# Altium footprint library Footprints.PcbLib: 3 footprints
Each footprint in its own frame and in the unit in brackets; x right, y up, seen from the top. Pads: shape width x height; smd on the part's side, far side on the other; paste and mask are expansions set on the pad; w line width, h text height; cw(c..) or ccw(c..) is an arc to the next point about the centre after c.
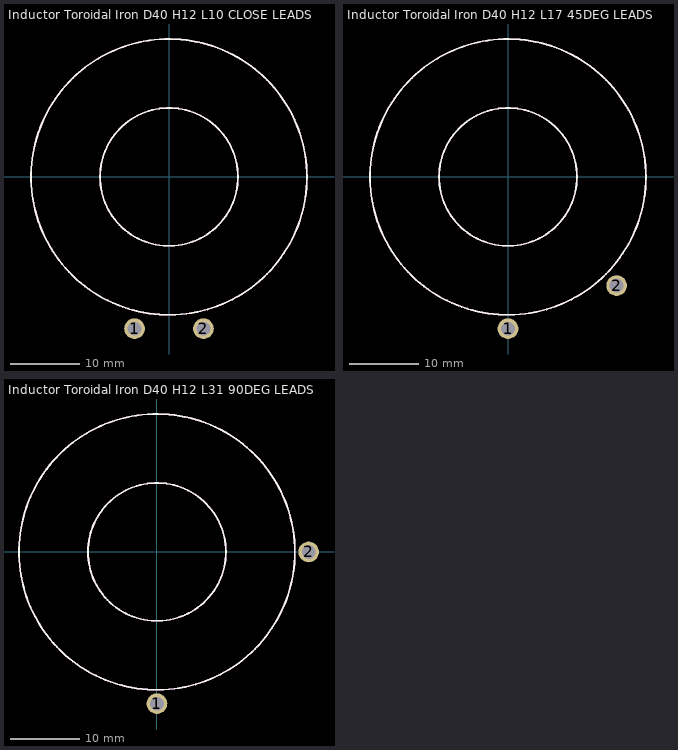
[diagram p0: the footprints below, top view; thin cyan lines are the x and y axes]

## Inductor Toroidal Iron D40 H12 L10 CLOSE LEADS [mm] "Inductor Toroidal Iron 40MM diameter 12MM height 10MM lead spacing ( close )"
height 12
pads (2):
  round 3 hole 2: 1(-5,-22) 2(5,-22)
Top Overlay:
  circle w0.254: c0,0 r20
  circle w0.254: c0,0 r10
Mechanical 13:
  circle w0.254: c0,0 r10
  circle w0.254: c0,0 r20
3D body: height 12, standoff 0, extent -20,-19.994 20,19.995

## Inductor Toroidal Iron D40 H12 L17 45DEG LEADS [mm] "Inductor Toroidal Iron 40MM diameter 12MM height 17MM lead spacing ( 45 deg )"
height 12
pads (2):
  round 3 hole 2: 1(0,-22) 2(15.75,-15.75)
Top Overlay:
  circle w0.254: c0,0 r10
  circle w0.254: c0,0 r20
Mechanical 13:
  circle w0.254: c0,0 r20
  circle w0.254: c0,0 r10
3D body: height 12, standoff 0, extent -20,-19.994 20,19.995

## Inductor Toroidal Iron D40 H12 L31 90DEG LEADS [mm] "Inductor Toroidal Iron 40MM diameter 12MM height 31MM lead spacing ( 90 deg )"
height 12
pads (2):
  round 3 hole 2: 1(0,-22) 2(22,0)
Top Overlay:
  circle w0.254: c0,0 r10
  circle w0.254: c0,0 r20
Mechanical 13:
  circle w0.254: c0,0 r20
  circle w0.254: c0,0 r10
3D body: height 12, standoff 0, extent -20,-19.994 20,19.995